# Altium footprint library SparkFun-Capacitors.PCBLIB: 87 footprints (part 1 of 6)
Each footprint in its own frame and in the unit in brackets; x right, y up, seen from the top. Pads: shape width x height; smd on the part's side, far side on the other; paste and mask are expansions set on the pad; w line width, h text height; cw(c..) or ccw(c..) is an arc to the next point about the centre after c.
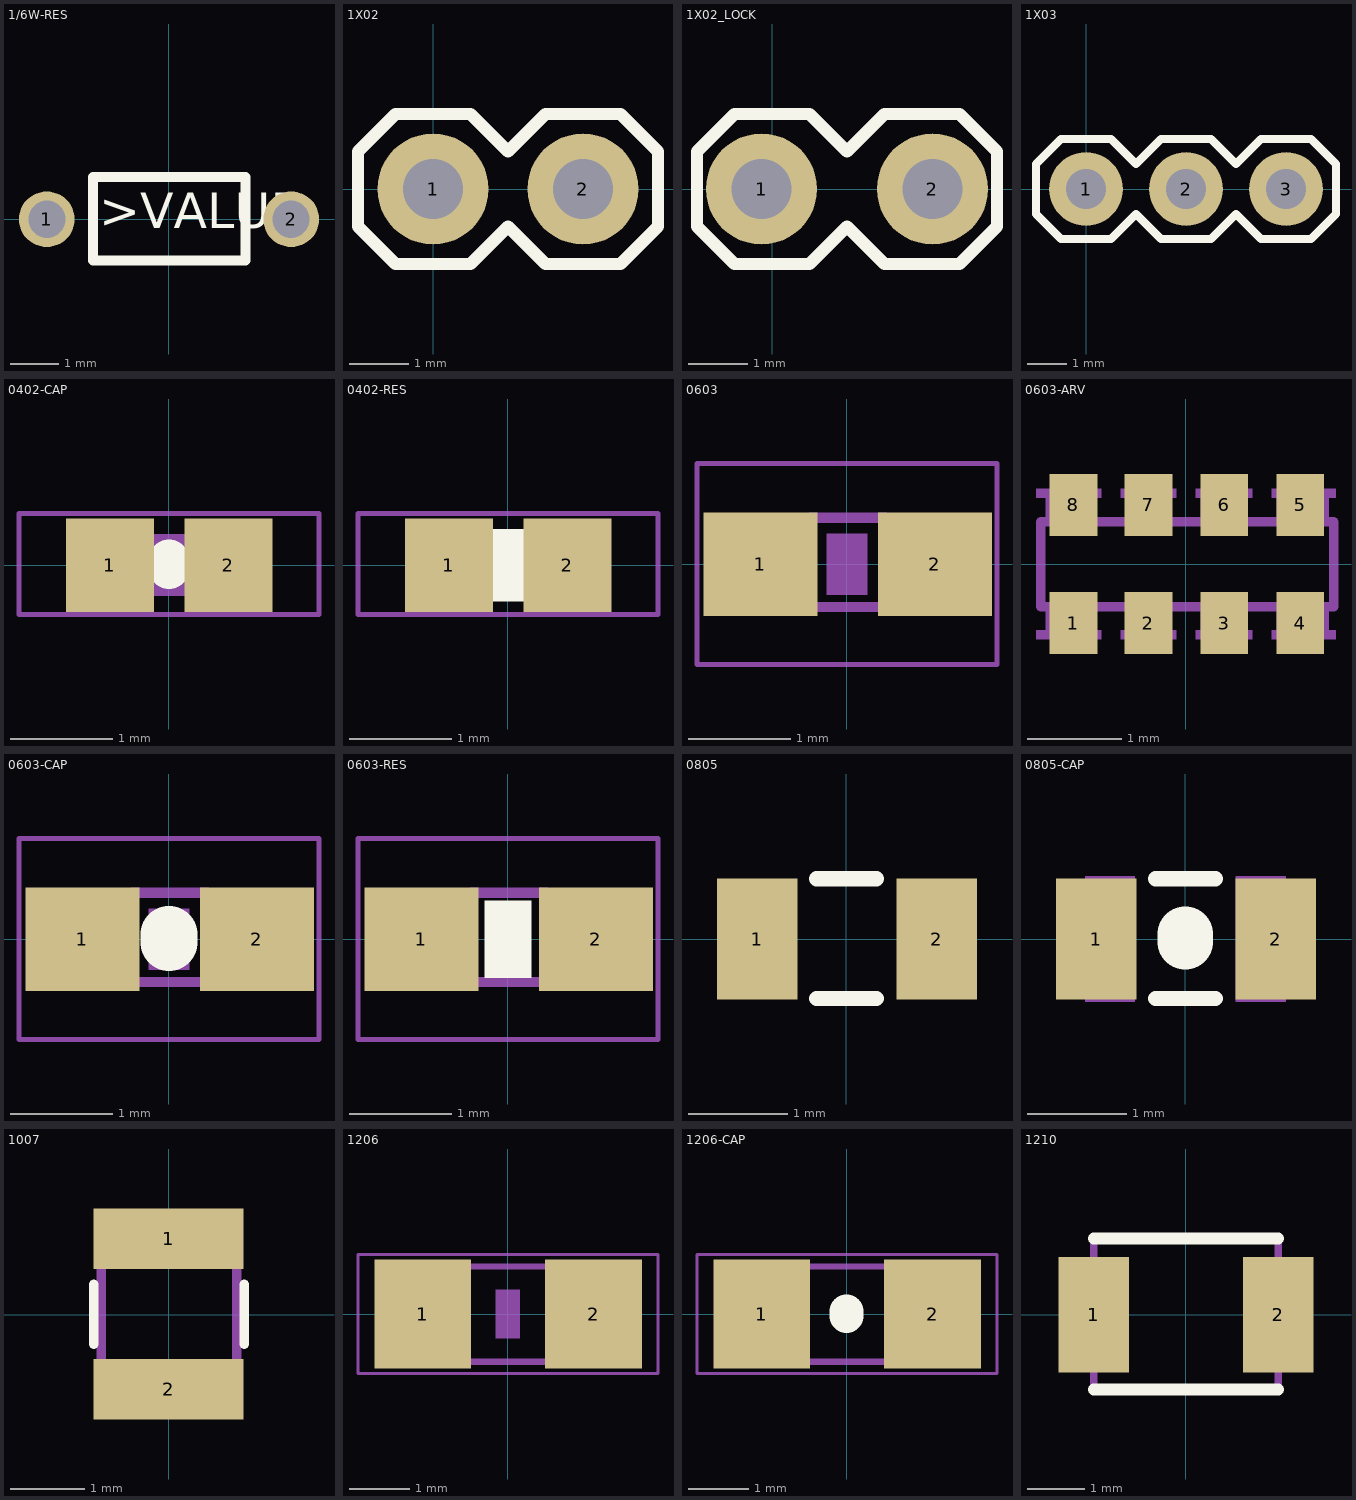
[diagram p0: the footprints below, top view; thin cyan lines are the x and y axes]

## 1/6W-RES [mil]
pads (2):
  round 45 hole 30: 1(-98.43,0) 2(99,0)
Top Overlay:
  lines w8: -61.02,-33.46 -61.02,34 62,34 62,-33.46 -61.02,-33.46
  text ">VALUE" at -56.02,-16.87 h49.6
Mechanical 2:
  text ">NAME" at -49.85,38 h37.2

## 1X02 [mil]
pads (2):
  round 74 hole 40: 1(0,0) 2(100,0)
Top Overlay:
  lines w8: -50,-25 -50,25 -25,50 25,50 50,25 75,50 125,50 150,25 150,-25 125,-50 75,-50 50,-25 25,-50 -25,-50 -50,-25
Mechanical 2:
  text ">NAME" at -53,72 h77.5
Mechanical 4:
  text ">VALUE" at -50,-125 h77.5
Mechanical 16:
  rectangle: 90,-10 110,10
  rectangle: -10,-10 10,10

## 1X02_LOCK [mil]
pads (2):
  round 74 hole 40: 1(-7,0) 2(107,0)
Top Overlay:
  lines w8: -50,-25 -50,25 -25,50 25,50 50,25 75,50 125,50 150,25 150,-25 125,-50 75,-50 50,-25 25,-50 -25,-50 -50,-25
Mechanical 2:
  text ">NAME" at -53,72 h77.5
Mechanical 4:
  text ">VALUE" at -50,-125 h77.5
Mechanical 16:
  rectangle: -11.5,-11.5 12,12
  rectangle: 89,-11.5 112,12

## 1X03 [mil]
pads (3):
  round 74 hole 40: 1(0,0) 2(100,0) 3(200,0)
Top Overlay:
  lines w8: -50,-25 -50,25 -25,50 25,50 50,25 75,50 125,50 150,25 175,50 225,50 250,25 250,-25 225,-50 175,-50 150,-25 125,-50 75,-50 50,-25 25,-50 -25,-50 -50,-25
Mechanical 2:
  text ">NAME" at -53,72 h77.5
Mechanical 4:
  text ">VALUE" at -50,-125 h77.5
Mechanical 16:
  rectangle: 190,-10 210,10
  rectangle: 90,-10 110,10
  rectangle: -10,-10 10,10

## 0402-CAP [mil]
pads (2):
  rect 34x36 smd: 1(-22.83,0) 2(23,0)
Top Overlay:
  lines w16: 0,-1.2 0,2
Mechanical 2:
  text ">NAME" at -35,28 h24.8
Mechanical 4:
  text ">VALUE" at -42.5,-45 h24.8
Mechanical 6:
  rectangle: -7.87,-11.81 8,12
Mechanical 16:
  rectangle: -21.81,-12 -10,12
  rectangle: 11,-12 22,12
  lines w6: -9.65,-8.82 10,-8.82 ; -9.65,9 10,9
Mechanical 27:
  lines w2: -57.99,-19.02 58,-19.02 58,20 -57.99,20 -57.99,-19.02

## 0402-RES [mil]
pads (2):
  rect 34x36 smd: 1(-22.83,0) 2(23,0)
Top Overlay:
  rectangle: -8,-14 8,14
Mechanical 2:
  text ">NAME" at -35,28 h24.8
Mechanical 4:
  text ">VALUE" at -42.5,-45 h24.8
Mechanical 6:
  rectangle: -7.87,-11.81 8,12
Mechanical 16:
  rectangle: -21.81,-12 -10,12
  rectangle: 11,-12 22,12
  lines w6: -9.65,-8.82 10,-8.82 ; -9.65,9 10,9
Mechanical 27:
  lines w2: -57.99,-19.02 58,-19.02 58,20 -57.99,20 -57.99,-19.02

## 0603 [mil]
pads (2):
  rect 44x40 smd: 1(-33.46,0) 2(34,0)
Mechanical 2:
  text ">NAME" at -35,30 h13.6
Mechanical 4:
  text ">VALUE" at -40,-45 h13.6
Mechanical 6:
  rectangle: -7.87,-11.81 8,12
Mechanical 16:
  rectangle: -33,-18.5 -13.31,19
  rectangle: 13,-18.5 33,19
  lines w4: -14.02,-16.5 15,-16.5 ; -14.02,18 15,18
Mechanical 27:
  lines w2: -57.99,-38.7 58,-38.7 58,39 -57.99,39 -57.99,-38.7

## 0603-ARV [mil]
pads (8):
  rect 20x26 smd: 1(-47.24,-24.61) 2(-15.75,-24.61) 3(16,-24.61) 4(48,-24.61) 5(48,25) 6(16,25) 7(-15.75,25) 8(-47.24,25)
Mechanical 2:
  text ">NAME" at -75,-100 h77.5
Mechanical 4:
  text ">VALUE" at -75,50 h77.5
Mechanical 16:
  rectangle: -62.99,28 -35.43,32
  rectangle: -27.56,28 -3.94,32
  rectangle: 4,28 28,32
  rectangle: 36,28 63,32
  rectangle: -59.06,20 -37.4,28
  rectangle: -25.59,20 -5.91,28
  rectangle: 6,20 26,28
  rectangle: 38,20 60,28
  rectangle: 36,-31.5 63,-27.56
  rectangle: 4,-31.5 28,-27.56
  rectangle: -27.56,-31.5 -3.94,-27.56
  rectangle: -62.99,-31.5 -35.43,-27.56
  rectangle: 38,-27.56 60,-19.68
  rectangle: 6,-27.56 26,-19.68
  rectangle: -25.59,-27.56 -5.91,-19.68
  rectangle: -59.06,-27.56 -37.4,-19.68
  lines w4: -61.02,-17.72 -61.02,18 62,18 62,-17.72 -61.02,-17.72

## 0603-CAP [mil]
pads (2):
  rect 44x40 smd: 1(-33.46,0) 2(34,0)
Top Overlay:
  lines w22: 0,-1.2 0,2
Mechanical 2:
  text ">NAME" at -35,30 h13.6
Mechanical 4:
  text ">VALUE" at -40,-45 h13.6
Mechanical 6:
  rectangle: -7.87,-11.81 8,12
Mechanical 16:
  rectangle: -33,-18.5 -13.31,19
  rectangle: 13,-18.5 33,19
  lines w4: -14.02,-16.5 15,-16.5 ; -14.02,18 15,18
Mechanical 27:
  lines w2: -57.99,-38.7 58,-38.7 58,39 -57.99,39 -57.99,-38.7

## 0603-RES [mil]
pads (2):
  rect 44x40 smd: 1(-33.46,0) 2(34,0)
Top Overlay:
  rectangle: -9,-15 9,15
Mechanical 2:
  text ">NAME" at -35,30 h13.6
Mechanical 4:
  text ">VALUE" at -40,-45 h13.6
Mechanical 6:
  rectangle: -7.87,-11.81 8,12
Mechanical 16:
  rectangle: -33,-18.5 -13.31,19
  rectangle: 13,-18.5 33,19
  lines w4: -14.02,-16.5 15,-16.5 ; -14.02,18 15,18
Mechanical 27:
  lines w2: -57.99,-38.7 58,-38.7 58,39 -57.99,39 -57.99,-38.7

## 0805 [mil]
pads (2):
  rect 32x48 smd: 1(-35.43,0) 2(36,0)
Top Overlay:
  lines w6: -11.81,-23.62 12,-23.62 ; -11.81,24 12,24
Mechanical 2:
  text ">NAME" at -30,33 h24.8
Mechanical 4:
  text ">VALUE" at -40,-55 h24.8

## 0805-CAP [mil]
pads (2):
  rect 32x48 smd: 1(-35.43,0) 2(36,0)
Top Overlay:
  lines w6: -11.81,-23.62 12,-23.62 ; -11.81,24 12,24
  lines w22: 0,-1.2 0,2
Mechanical 2:
  text ">NAME" at -30,33 h24.8
Mechanical 4:
  text ">VALUE" at -40,-55 h24.8
Mechanical 16:
  rectangle: 20,-25 40,25
  region: -20,25 -40,25 -40,-25 -20,-25

## 1007 [mil]
pads (2):
  rect 79x32 smd: 1(0,40) 2(0,-39.37)
Top Overlay:
  lines w5: -39.37,-15.75 -39.37,16 ; 40,-15.75 40,16
Mechanical 2:
  text ">NAME" at -39.37,63 h24.8
Mechanical 4:
  text ">VALUE" at -39.37,-78.74 h24.8
Mechanical 16:
  lines w5: -35.43,-49.21 -35.43,50 36,50 36,-49.21 -35.43,-49.21

## 1206 [mil]
pads (2):
  rect 63x71 smd: 1(-55.12,0) 2(56,0)
Mechanical 2:
  text ">NAME" at -50,45 h24.8
Mechanical 4:
  text ">VALUE" at -55,-60 h24.8
Mechanical 6:
  rectangle: -7.87,-15.75 8,16
Mechanical 16:
  rectangle: -67,-33.5 -37.47,34
  rectangle: 38,-33.43 67,34
  lines w4: -37.99,-30.98 38,-30.98 ; -37.99,31 38,31
Mechanical 27:
  lines w2: -97.36,-38.7 98,-38.7 98,39 -97.36,39 -97.36,-38.7

## 1206-CAP [mil]
pads (2):
  rect 63x71 smd: 1(-55.12,0) 2(56,0)
Top Overlay:
  lines w22: 0,-1.2 0,2
Mechanical 2:
  text ">NAME" at -50,45 h24.8
Mechanical 4:
  text ">VALUE" at -55,-60 h24.8
Mechanical 16:
  rectangle: -67,-33.5 -37.47,34
  rectangle: 38,-33.43 67,34
  lines w4: -37.99,-30.98 38,-30.98 ; -37.99,31 38,31
Mechanical 27:
  lines w2: -97.36,-38.7 98,-38.7 98,39 -97.36,39 -97.36,-38.7

## 1210 [mil]
pads (2):
  rect 48x79 smd: 1(-62.99,0) 2(63,0)
Top Overlay:
  lines w8: -62.99,-51.18 63,-51.18 ; -62.99,52 63,52
Mechanical 2:
  text ">NAME" at -31.5,20 h24.8
Mechanical 4:
  text ">VALUE" at -35.43,-27.56 h24.8
Mechanical 16:
  lines w5: -62.99,-51.18 63,-51.18 63,52 -62.99,52 -62.99,-51.18